# Altium footprint library TDFN8.PcbLib: 1 footprints
Each footprint in its own frame and in the unit in brackets; x right, y up, seen from the top. Pads: shape width x height; smd on the part's side, far side on the other; paste and mask are expansions set on the pad; w line width, h text height; cw(c..) or ccw(c..) is an arc to the next point about the centre after c.
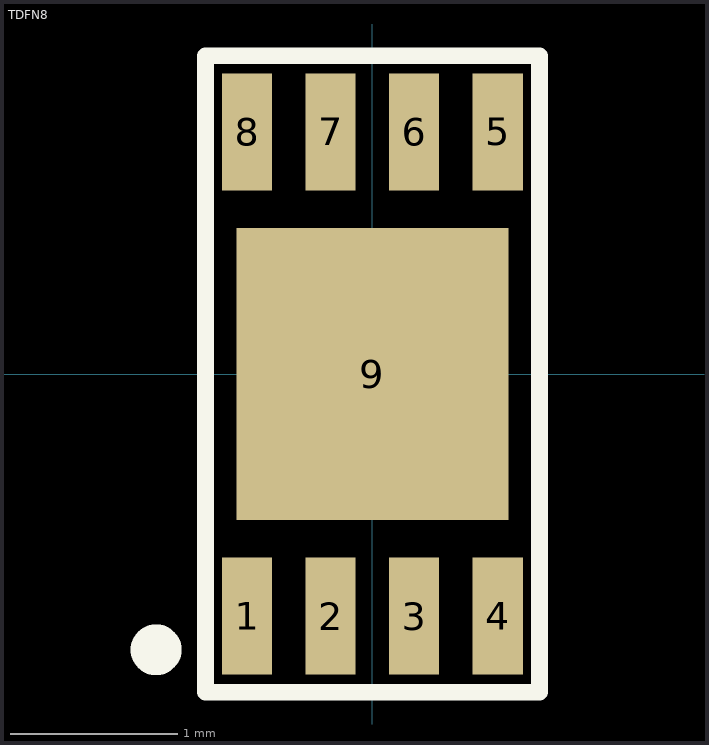
[diagram p0: the footprint, top view; thin cyan lines are the x and y axes]

## TDFN8 [mm]
height 1
pads (9):
  rect 0.3x0.7 smd: 1(-0.75,-1.45) 2(-0.25,-1.45) 3(0.25,-1.45) 4(0.75,-1.45) 5(0.75,1.45) 6(0.25,1.45) 7(-0.25,1.45) 8(-0.75,1.45)
  rect 1.63x1.75 smd paste-10: 9(0,0)
Top Overlay:
  circle w0.254: c-1.295,-1.651 r0.025
  lines w0.1: -1,-1.905 -1,1.905 1,1.905 1,-1.905 -1,-1.905
Top Paste:
  rectangle: -0.762,-0.762 -0.127,0.762
  rectangle: 0.127,-0.762 0.762,0.762
3D body: height 0.73, standoff -0.02, extent -1.001,-1.501 1.001,1.501